# EAGLE library part MAX706RESA+T (library PDUv2)
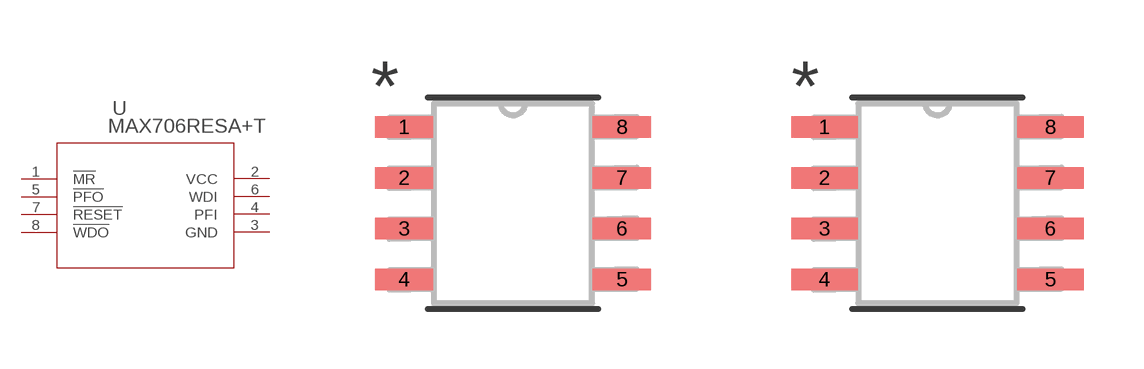
[diagram p2: symbol with the pads of 21-0041B_8_MXM; footprints 21-0041B_8_MXM, 21-0041B_8_MXM-M]

Designator prefix U

## MAX706RESA+T (BUILT_BY: EMA_Jessica; COPYRIGHT: Copyright (C) 2016 Accelerated Designs. All rights reserved; MANUFACTURER_PART_NUMBER: MAX706RESA+T; REVISION: 3; SOURCELIBRARY: Maxim_2018-11-30; VENDOR: Maxim Integrated Products)  [21-0041B_8_MXM]
1  !MR  in
2  VCC  pwr
3  GND  pwr
4  PFI  in
5  !PFO  out
6  WDI  in
7  !RESET  out
8  !WDO  out

## MAX706RESA+T21-0041B_8_MXM-M (BUILT_BY: EMA_Jessica; COPYRIGHT: Copyright (C) 2016 Accelerated Designs. All rights reserved; MANUFACTURER_PART_NUMBER: MAX706RESA+T; REVISION: 3; SOURCELIBRARY: Maxim_2018-11-30; VENDOR: Maxim Integrated Products)  [21-0041B_8_MXM-M]
Pads as for 21-0041B_8_MXM

## MAX706RESA+T21-0041B_8_MXM-L (BUILT_BY: EMA_Jessica; COPYRIGHT: Copyright (C) 2016 Accelerated Designs. All rights reserved; MANUFACTURER_PART_NUMBER: MAX706RESA+T; REVISION: 3; SOURCELIBRARY: Maxim_2018-11-30; VENDOR: Maxim Integrated Products)  [21-0041B_8_MXM-L]
Pads as for 21-0041B_8_MXM

## Footprint 21-0041B_8_MXM (pad centres in mm)
smd 1.46 x 0.533: 1 -2.724,1.905; 2 -2.724,0.635; 3 -2.724,-0.635; 4 -2.724,-1.905; 5 2.724,-1.905; 6 2.724,-0.635; 7 2.724,0.635; 8 2.724,1.905

## Footprint 21-0041B_8_MXM-M (pad centres in mm)
smd 1.664 x 0.533: 1 -2.826,1.905; 2 -2.826,0.635; 3 -2.826,-0.635; 4 -2.826,-1.905; 5 2.826,-1.905; 6 2.826,-0.635; 7 2.826,0.635; 8 2.826,1.905

## Footprint 21-0041B_8_MXM-L (pad centres in mm)
smd 1.257 x 0.483: 1 -2.623,1.905; 2 -2.623,0.635; 3 -2.623,-0.635; 4 -2.623,-1.905; 5 2.623,-1.905; 6 2.623,-0.635; 7 2.623,0.635; 8 2.623,1.905